# EAGLE library part 74HC7014 (library synfinatic)
Philips 74HC7014 DIP14 6 channel Schmitt-trigger 3-6V
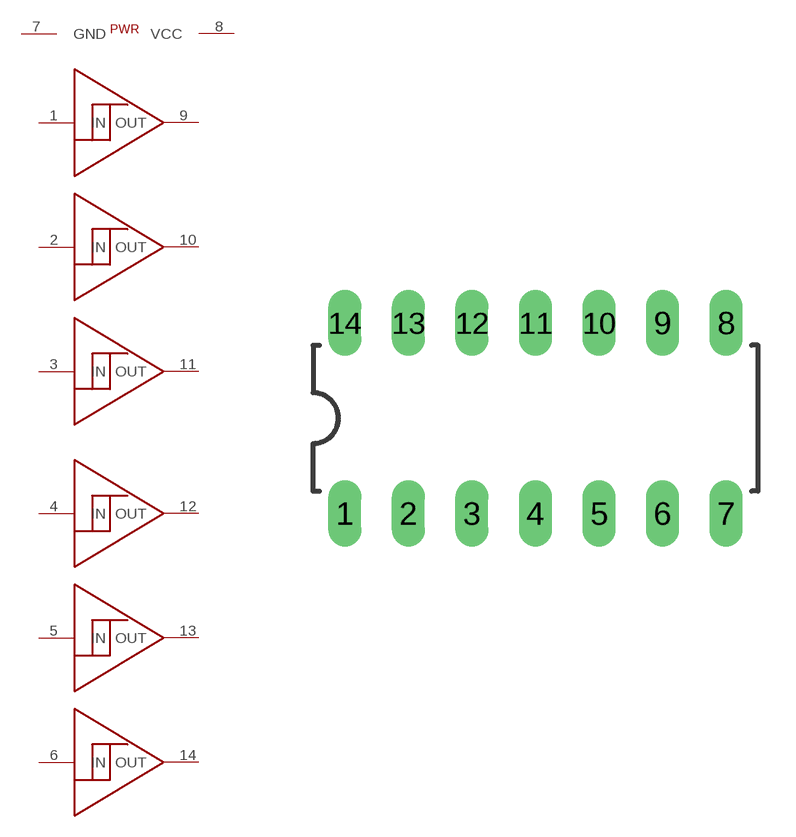
[diagram p4: symbol with the pads of DIP14; footprint DIP14]

Designator prefix -; gates G$1=POWER A=SCHMITT B=SCHMITT C=SCHMITT D=SCHMITT E=SCHMITT F=SCHMITT

## 74HC7014  [DIP14]
1  A:IN  in
2  B:IN  in
3  C:IN  in
4  D:IN  in
5  E:IN  in
6  F:IN  in
7  G$1:GND  pwr
8  G$1:VCC  pwr
9  A:OUT  out
10  B:OUT  out
11  C:OUT  out
12  D:OUT  out
13  E:OUT  out
14  F:OUT  out

## Footprint DIP14 (pad centres in mm)
drill 0.813 long: 1 -8.89,-3.81; 2 -6.35,-3.81; 3 -3.81,-3.81; 4 -1.27,-3.81; 5 1.27,-3.81; 6 3.81,-3.81; 7 6.35,-3.81; 8 6.35,3.81; 9 3.81,3.81; 10 1.27,3.81; 11 -1.27,3.81; 12 -3.81,3.81; 13 -6.35,3.81; 14 -8.89,3.81